# Altium footprint library 底板20160428.PcbLib: 19 footprints (part 1 of 2)
Each footprint in its own frame and in the unit in brackets; x right, y up, seen from the top. Pads: shape width x height; smd on the part's side, far side on the other; paste and mask are expansions set on the pad; w line width, h text height; cw(c..) or ccw(c..) is an arc to the next point about the centre after c.
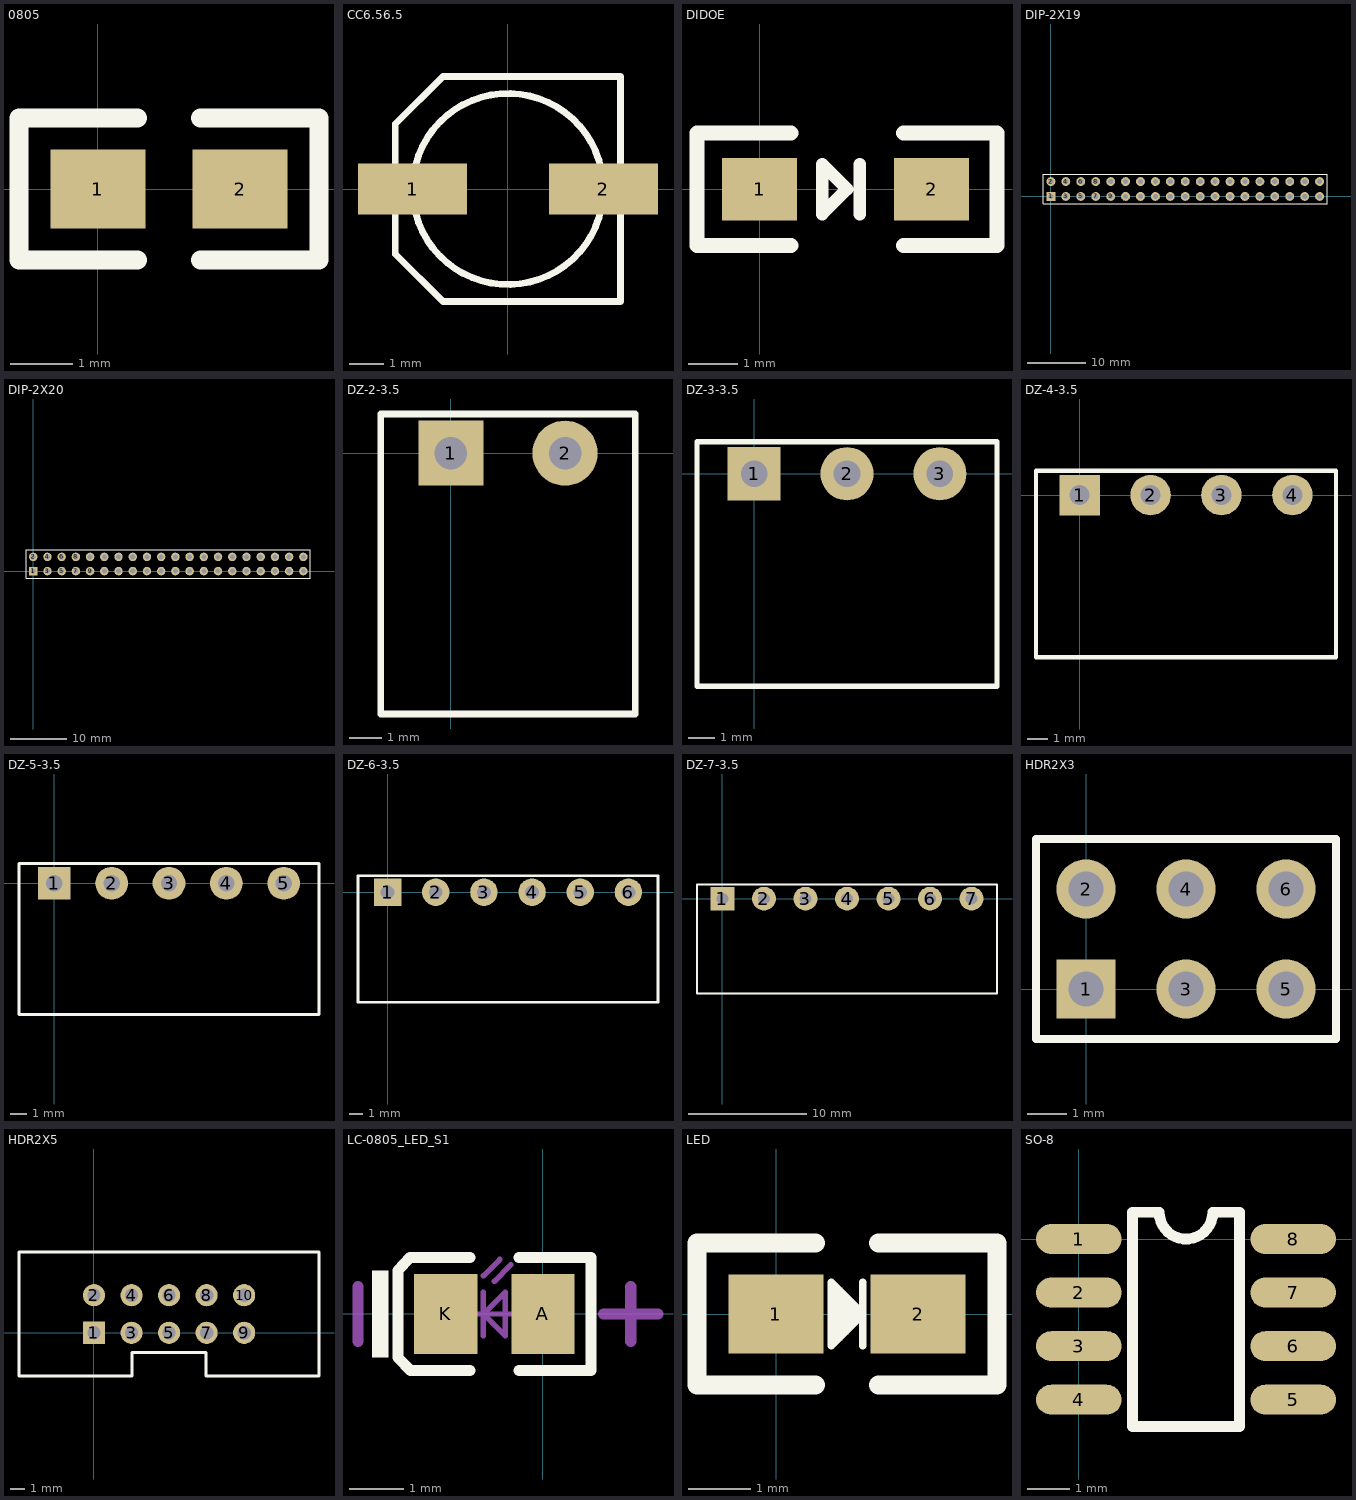
[diagram p0: the footprints below, top view; thin cyan lines are the x and y axes]

## 0805 [mil]
height 68.9
pads (2):
  rect 60x50 smd: 1(0,0) 2(90,0)
Top Overlay:
  lines w12: 25,-45 -50,-45 -50,45 25,45 ; 65,-45 140,-45 140,45 65,45

## CC6.56.5 [mm]
pads (2):
  rect 3.2x1.5 smd: 1(-2.794,0) 2(2.8,0)
Top Overlay:
  circle w0.2: c0,0 r2.8
  lines w0.2: -3.302,-1.905 -1.905,-3.302 3.302,-3.302 3.302,3.302 -1.905,3.302 -3.302,1.905 -3.302,-1.905

## DIDOE [mil]
pads (2):
  rect 60x50 smd: 1(0,0) 2(137.8,0)
Top Overlay:
  lines w10: 80,-20 80,20 ; 50,-20 70,0 50,20 50,-20
  lines w12: 25,-45 -50,-45 -50,45 25,45 ; 115,-45 190,-45 190,45 115,45

## DIP-2X19 [mm]
pads (38):
  rect 1.5x1.5 hole 0.9: 1(0,0)
  round 1.5 hole 0.9: 2(0,2.54) 3(2.54,0) 4(2.54,2.54) 5(5.08,0) 6(5.08,2.54) 7(7.62,0) 8(7.62,2.54) 9(10.16,0) 10(10.16,2.54) 11(12.7,0) 12(12.7,2.54) 13(15.24,0) 14(15.24,2.54) 15(17.78,0) 16(17.78,2.54) 17(20.32,0) 18(20.32,2.54) 19(22.86,0) 20(22.86,2.54) 21(25.4,0) 22(25.4,2.54) 23(27.94,0) 24(27.94,2.54) 25(30.48,0) 26(30.48,2.54) 27(33.02,0) 28(33.02,2.54) 29(35.56,0) 30(35.56,2.54) 31(38.1,0) 32(38.1,2.54) 33(40.64,0) 34(40.64,2.54) 35(43.18,0) 36(43.18,2.54) 37(45.72,0) 38(45.72,2.54)
Top Overlay:
  lines w0.2: 8.763,-1.27 46.99,-1.27 ; 8.89,-1.27 -1.27,-1.27 -1.27,3.81 8.89,3.81 46.99,3.81 ; 44.45,-1.27 46.99,-1.27 ; 44.45,3.81 46.99,3.81 ; 46.99,-1.27 46.99,3.81

## DIP-2X20 [mm]
pads (40):
  rect 1.5x1.5 hole 0.9: 1(0,0)
  round 1.5 hole 0.9: 2(0,2.54) 3(2.54,0) 4(2.54,2.54) 5(5.08,0) 6(5.08,2.54) 7(7.62,0) 8(7.62,2.54) 9(10.16,0) 10(10.16,2.54) 11(12.7,0) 12(12.7,2.54) 13(15.24,0) 14(15.24,2.54) 15(17.78,0) 16(17.78,2.54) 17(20.32,0) 18(20.32,2.54) 19(22.86,0) 20(22.86,2.54) 21(25.4,0) 22(25.4,2.54) 23(27.94,0) 24(27.94,2.54) 25(30.48,0) 26(30.48,2.54) 27(33.02,0) 28(33.02,2.54) 29(35.56,0) 30(35.56,2.54) 31(38.1,0) 32(38.1,2.54) 33(40.64,0) 34(40.64,2.54) 35(43.18,0) 36(43.18,2.54) 37(45.72,0) 38(45.72,2.54) 39(48.26,0) 40(48.26,2.54)
Top Overlay:
  lines w0.2: 8.763,-1.27 46.99,-1.27 49.53,-1.27 49.53,3.81 46.99,3.81 8.89,3.81 -1.27,3.81 -1.27,-1.27 8.89,-1.27

## DZ-2-3.5 [mm]
pads (2):
  rect 2x2 hole 1: 1(0,0)
  round 2 hole 1: 2(3.5,0)
Top Overlay:
  lines w0.2: -2.15,-8 5.65,-8 5.65,1.2 3.5,1.2 0,1.2 -2.15,1.2 -2.15,-8

## DZ-3-3.5 [mm]
pads (3):
  rect 2x2 hole 1: 1(0,0)
  round 2 hole 1: 2(3.5,0) 3(7,0)
Top Overlay:
  lines w0.2: 5.65,1.2 3.5,1.2 ; 3.5,1.2 7,1.2 9.15,1.2 9.15,-8 5.65,-8 -2.15,-8 -2.15,1.2 0,1.2 3.5,1.2

## DZ-4-3.5 [mm]
pads (4):
  rect 2x2 hole 1: 1(0,0)
  round 2 hole 1: 2(3.5,0) 3(7,0) 4(10.5,0)
Top Overlay:
  lines w0.2: 5.65,1.2 3.5,1.2 ; 3.5,1.2 0,1.2 -2.15,1.2 -2.15,-8 5.65,-8 9.15,-8 12.65,-8 12.65,1.2 10.5,1.2 7,1.2 ; 3.5,1.2 7,1.2 ; 7,1.2 9.15,1.2 7,1.2

## DZ-5-3.5 [mm]
pads (5):
  rect 2x2 hole 1: 1(0,0)
  round 2 hole 1: 2(3.5,0) 3(7,0) 4(10.5,0) 5(14,0)
Top Overlay:
  lines w0.2: 5.65,1.2 3.5,1.2 ; 3.5,1.2 0,1.2 -2.15,1.2 -2.15,-8 5.65,-8 9.15,-8 ; 3.5,1.2 7,1.2 ; 7,1.2 10.5,1.2 ; 7,1.2 9.15,1.2 7,1.2 ; 9.15,-8 12.65,-8 ; 9.15,-8 12.65,-8 ; 10.5,1.2 12.65,1.2 ; 10.5,1.2 12.65,1.2 ; 10.5,1.2 12.65,1.2 ; 10.5,1.2 14,1.2 16.15,1.2 16.15,-8 12.65,-8

## DZ-6-3.5 [mm]
pads (6):
  rect 2x2 hole 1: 1(0,0)
  round 2 hole 1: 2(3.5,0) 3(7,0) 4(10.5,0) 5(14,0) 6(17.5,0)
Top Overlay:
  lines w0.2: 5.65,1.2 3.5,1.2 ; 3.5,1.2 7,1.2 ; 3.5,1.2 0,1.2 -2.15,1.2 -2.15,-8 5.65,-8 9.15,-8 12.65,-8 16.15,-8 19.65,-8 19.65,1.2 17.5,1.2 14,1.2 ; 7,1.2 9.15,1.2 7,1.2 ; 7,1.2 10.5,1.2 ; 10.5,1.2 12.65,1.2 10.5,1.2 ; 10.5,1.2 14,1.2 ; 14,1.2 16.15,1.2 14,1.2

## DZ-7-3.5 [mm]
pads (7):
  rect 2x2 hole 1: 1(0,0)
  round 2 hole 1: 2(3.5,0) 3(7,0) 4(10.5,0) 5(14,0) 6(17.5,0) 7(21,0)
Top Overlay:
  lines w0.2: 5.65,1.2 3.5,1.2 ; 3.5,1.2 7,1.2 ; 3.5,1.2 0,1.2 -2.15,1.2 -2.15,-8 5.65,-8 9.15,-8 ; 7,1.2 9.15,1.2 7,1.2 ; 7,1.2 10.5,1.2 ; 9.15,-8 12.65,-8 ; 9.15,-8 12.65,-8 ; 10.5,1.2 14,1.2 ; 10.5,1.2 12.65,1.2 ; 10.5,1.2 12.65,1.2 ; 10.5,1.2 12.65,1.2 ; 12.65,-8 16.15,-8 ; 14,1.2 16.15,1.2 ; 14,1.2 17.5,1.2 ; 14,1.2 16.15,1.2 ; 14,1.2 16.15,1.2 ; 16.15,-8 19.65,-8 ; 16.15,-8 19.65,-8 ; 17.5,1.2 19.65,1.2 ; 17.5,1.2 19.65,1.2 ; 17.5,1.2 19.65,1.2 ; 17.5,1.2 21,1.2 23.15,1.2 23.15,-8 19.65,-8

## HDR2X3 [mm]
pads (6):
  rect 1.5x1.5 hole 0.9: 1(0,0)
  round 1.5 hole 0.9: 2(0,2.54) 3(2.54,0) 4(2.54,2.54) 5(5.08,0) 6(5.08,2.54)
Top Overlay:
  lines w0.2: 1.482,-1.27 6.35,-1.27 ; 6.35,-1.27 -1.27,-1.27 -1.27,3.81 6.35,3.81 6.35,-1.27

## HDR2X5 [mm] "Connector;"
pads (10):
  rect 1.5x1.5 hole 0.9: 1(0,0)
  round 1.5 hole 0.9: 2(0,2.54) 3(2.54,0) 4(2.54,2.54) 5(5.08,0) 6(5.08,2.54) 7(7.62,0) 8(7.62,2.54) 9(10.16,0) 10(10.16,2.54)
Top Overlay:
  lines w0.2: -5.075,-2.93 -5.075,5.47 15.225,5.47 15.225,-2.93 7.595,-2.93 ; -5.064,-2.919 2.58,-2.919 2.58,-1.346 5.08,-1.346 7.58,-1.346 7.58,-2.915

## LC-0805_LED_S1 [mm]
pads (2):
  rect 1.16x1.47 smd: A(0.001,0) K(-1.779,0)
Top Overlay:
  rectangle: -3.134,-0.8 -2.834,0.8
  lines w0.2: -1.339,-1.035 -2.424,-1.035 -2.659,-0.8 -2.659,0.8 -2.439,1.035 -1.339,1.035 ; -0.439,-1.035 0.881,-1.035 0.881,1.035 -0.439,1.035
Mechanical 13:
  lines w0.1: -1.289,0 -0.489,0 ; -1.089,-0.4 -1.089,0.4 ; -1.089,0.7 -0.789,1 ; -0.889,0.6 -0.589,0.9 ; -1.089,0 -0.689,-0.4 -0.689,0.4 -1.089,0
Mechanical 15:
  lines w0.203: -3.389,-0.5 -3.389,0.5 ; 1.111,0 2.111,0 ; 1.611,-0.5 1.611,0.5
3D body: height 1.1, standoff 0, extent -1.899,-0.625 0.121,0.625

## LED [mil]
height 68.9
pads (2):
  rect 60x50 smd: 1(-0.31,0.27) 2(89.69,0.27)
Top Overlay:
  lines w5: 34.69,6.27 39.9,11.48 39.9,15.05 ; 39.9,-6.23 34.69,-6.23 34.69,-2.73 35.19,-3.23 39.9,-3.23 39.9,-0.45 34.69,4.77 34.69,9.84 39.9,15.05 ; 45.69,0.27 49.19,3.77 54.69,3.77 ; 54.69,-19.73 54.69,20.27 ; 54.69,-2.73 47.69,-2.73 44.69,0.27 ; 34.69,-19.73 54.69,0.27 ; 34.69,-19.73 34.69,20.27 54.69,0.27 ; 34.69,-19.73 39.9,-14.52 ; 39.9,-14.52 39.9,15.05 ; 39.9,-14.52 38.48,-14.52 34.69,-10.73 43.69,-10.73 44.69,-9.73 44.69,10.27 44.69,0.27 ; 44.69,0.27 34.69,0.27 54.69,0.27
  lines w12: 24.69,-44.73 -50.31,-44.73 -50.31,45.27 24.69,45.27 ; 64.69,-44.73 139.69,-44.73 139.69,45.27 64.69,45.27

## SO-8 [mil]
pads (8):
  oval 80x28 smd: 1(0,0) 2(0,-50) 3(0,-100) 4(0,-150) 5(200,-150) 6(200,-100) 7(200,-50) 8(200,0)
Top Overlay:
  lines w10: 72,25 50,25 50,-175 150,-175 150,25 125,25 cw(c100,25) 75,25